# Altium footprint library StandardDevices.PcbLib: 59 footprints (part 2 of 4)
Each footprint in its own frame and in the unit in brackets; x right, y up, seen from the top. Pads: shape width x height; smd on the part's side, far side on the other; paste and mask are expansions set on the pad; w line width, h text height; cw(c..) or ccw(c..) is an arc to the next point about the centre after c.
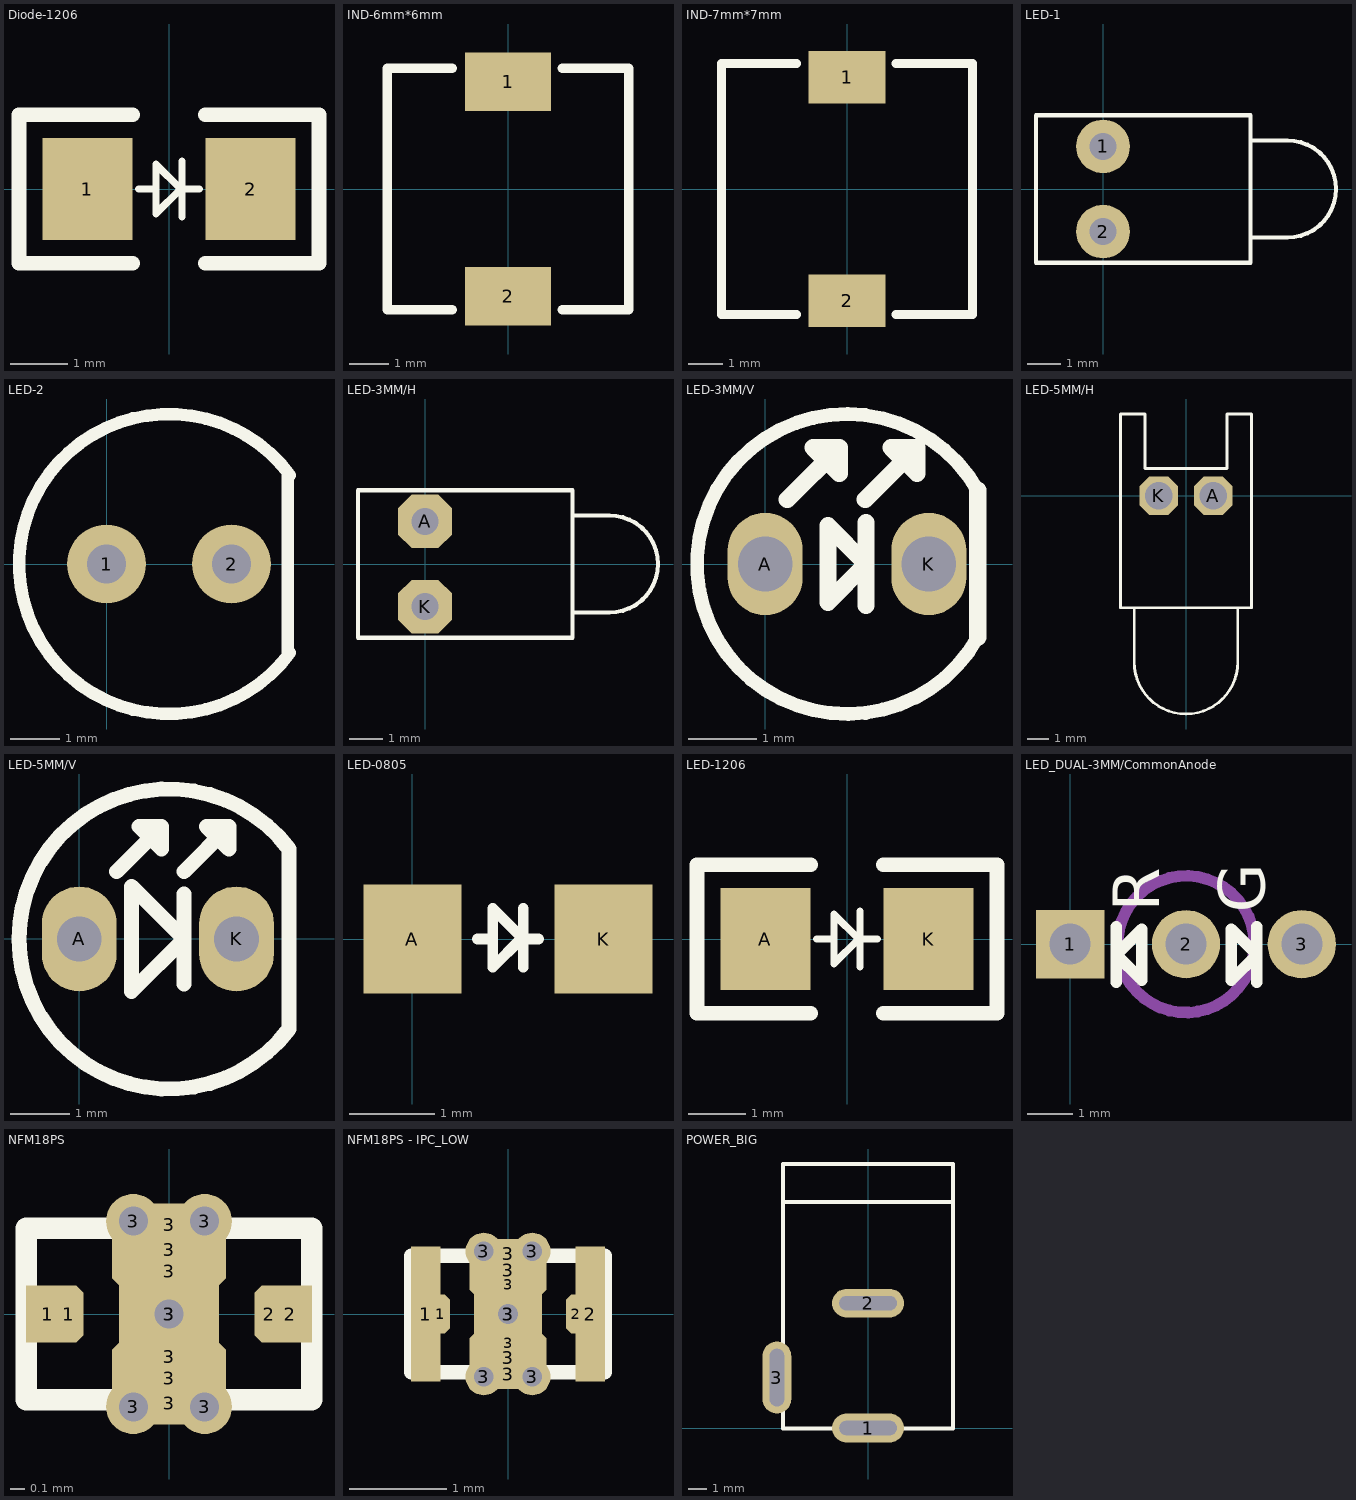
[diagram p1: the footprints below, top view; thin cyan lines are the x and y axes]

## Diode-1206 [mil]
pads (2):
  rect 62x70 smd: 1(-56,0) 2(56,0)
Top Overlay:
  lines w5: -21,0 -9,0 ; 9,-19 9,19 ; 9,0 21,0 ; -9,-17 -9,17 8,0 -9,-17
  lines w10: -25,-51 -103,-51 -103,51 -25,51 ; 25,-51 103,-51 103,51 25,51

## IND-6mm*6mm [mm] "6mm*6mm Inductor"
pads (2):
  rect 2.2x1.5 smd: 1(0,2.75) 2(0,-2.75)
Top Overlay:
  lines w0.254: -1.441,-3.1 -3.1,-3.1 -3.1,3.1 -1.441,3.1 ; 1.397,-3.1 3.1,-3.1 3.1,3.1 1.397,3.1
3D body: height 4.5, standoff 0, extent -3.1,-3.1 3.1,3.1

## IND-7mm*7mm [mm] "7mm*7mm Inductor"
pads (2):
  rect 2.2x1.5 smd: 1(0,3.2) 2(0,-3.2)
Top Overlay:
  lines w0.254: -3.556,-3.556 -3.6,-3.6 ; -1.441,-3.6 -3.6,-3.6 ; -1.441,3.6 -3.6,3.6 -3.6,-3.6 ; 1.397,-3.6 3.6,-3.6 3.6,3.6 1.397,3.6

## LED-1 [mm]
pads (2):
  round 1.6 hole 0.8: 1(0,1.27) 2(0,-1.27)
Top Overlay:
  lines w0.127: 4.4,-1.45 5.5,-1.45 ccw(c5.5,0) 5.5,1.45 4.4,1.45 ; -2,-2.2 4.4,-2.2 4.4,2.2 -2,2.2 -2,-2.2

## LED-2 [mil]
pads (2):
  round 63 hole 31.5: 1(0,0) 2(100,0)
Top Overlay:
  lines w10: 145,-70 145,70 ; 146.61,-71.18 cw(c50,0) 146.61,71.18

## LED-3MM/H [mm]
pads (2):
  oct 1.6x1.6 hole 0.8: A(0,1.27) K(0,-1.27)
Top Overlay:
  lines w0.127: 4.4,-1.45 5.5,-1.45 ccw(c5.5,0) 5.5,1.45 4.4,1.45 ; -2,-2.2 -2,2.2 4.4,2.2 4.4,-2.2 -2,-2.2

## LED-3MM/V [mm]
pads (2):
  oval 1.1x1.5 hole 0.8: A(0,0) K(2.4,0)
Top Overlay:
  lines w0.203: 3.116,1.082 ccw(c1.2,0) 3.119,-1.076
  lines w0.254: 0.322,0.946 1.084,1.708 ; 1.465,0.946 2.227,1.708 ; 1.479,-0.61 1.479,0.61 ; 3.116,-1.073 3.116,1.082 ; 1.084,1.708 1.084,1.327 0.703,1.708 1.084,1.708 ; 2.227,1.708 1.846,1.708 2.227,1.327 2.227,1.708 ; 0.921,-0.559 0.921,0.559 1.479,0 0.921,-0.559

## LED-5MM/H [mil]
pads (2):
  oct 70x70 hole 50: A(50,0) K(-50,0)
Top Overlay:
  lines w5: -95,-205 -95,-305 ccw(c0,-305) 95,-305 95,-205 ; -120,-205 -120,150 -75,150 -75,50 75,50 75,150 120,150 120,-205 -120,-205

## LED-5MM/V [mil]
pads (2):
  oval 50x70 hole 30: A(0,0) K(105,0)
Top Overlay:
  lines w10: 25,45 55,75 ; 70,-30 70,30 ; 70,45 100,75 ; 55,75 40,75 55,60 55,75 ; 100,75 85,75 100,60 100,75 ; 35,-35 70,0 35,35 35,-35 ; 140,-60.15 cw(c59.9,-0.07) 140,60 140,-60.15

## LED-0805 [mil]
pads (2):
  rect 45x50 smd: A(0,0) K(88,0)
Top Overlay:
  lines w5: 30,0 36,0 ; 50,0 37,-13 37,14 51,0 58,0 ; 51,-13 51,14

## LED-1206 [mil]
pads (2):
  rect 62x70 smd: A(-56,0) K(56,0)
Top Overlay:
  lines w5: -21,0 -9,0 ; 9,-19 9,19 ; 9,0 21,0 ; -9,-17 8,0 -9,17 -9,-17
  lines w10: -25,-51 -103,-51 -103,51 -25,51 ; 25,-51 103,-51 103,51 25,51

## LED_DUAL-3MM/CommonAnode [mm] "Common Anode 3mm LED in Red and Green"
pads (3):
  rect 1.5x1.5 hole 0.9: 1(0,0)
  round 1.5 hole 0.9: 2(2.54,0) 3(5.08,0)
Top Overlay:
  lines w0.254: 1.01,-0.838 1.01,0.381 ; 4.096,-0.838 4.096,0.381 ; 1.01,-0.229 1.569,0.33 1.569,-0.787 1.01,-0.229 ; 3.537,-0.787 4.096,-0.229 3.537,0.33 3.537,-0.787
  text "R" at 1.956,0.711 h1.02
  text "G" at 4.267,0.686 h1.02
Mechanical 13:
  circle w0.254: c2.54,0 r1.5

## NFM18PS [mm] "NFM18ps package"
pads (16):
  rect 0.3x0.4 smd mask+0.05: 1(-0.85,0) 2(0.85,0)
  oct 0.2x0.4 smd mask+0.05: 1(-0.7,0) 2(0.7,0)
  round 0.381 hole 0.203: 3(-0.25,-0.65) 3(-0.25,0.65) 3(0,0) 3(0.25,-0.65) 3(0.25,0.65)
  rect 0.8x0.3 smd: 3(0,-0.625) 3(0,0.625)
  rect 0.8x0.3 smd mask+0.05: 3(0,-0.45) 3(0,0.45)
  oct 0.8x0.2 smd mask+0.05: 3(0,-0.3) 3(0,0.3)
  rect 0.7x0.6 smd: 3(0,0)
Top Overlay:
  lines w0.15: -1,-0.6 -1,0.6 1,0.6 1,-0.6 -1,-0.6
3D body: height 0.6, standoff 0, extent -0.8,-0.4 0.8,0.4

## NFM18PS - IPC_LOW [mm] "NFM18ps package"
pads (16):
  rect 0.3x1.4 smd mask+0.05: 1(-0.85,0) 2(0.85,0)
  oct 0.2x0.4 smd mask+0.05: 1(-0.7,0) 2(0.7,0)
  round 0.381 hole 0.203: 3(-0.25,-0.65) 3(-0.25,0.65) 3(0,0) 3(0.25,-0.65) 3(0.25,0.65)
  rect 0.8x0.3 smd: 3(0,-0.625) 3(0,0.625)
  rect 0.8x0.3 smd mask+0.05: 3(0,-0.45) 3(0,0.45)
  oct 0.8x0.2 smd mask+0.05: 3(0,-0.3) 3(0,0.3)
  rect 0.7x0.6 smd: 3(0,0)
Top Overlay:
  lines w0.15: -1,-0.6 -1,0.6 1,0.6 1,-0.6 -1,-0.6
3D body: height 0.6, standoff 0, extent -0.8,-0.4 0.8,0.4

## PCBComponent_1 [mm]

## POWER_BIG [mil]
pads (3):
  oval 150x60 hole 30 slot 120 at 0 deg: 1(0,0) 2(0,260)
  oval 60x150 hole 30 slot 120 at 90 deg: 3(-190,105)
Top Overlay:
  lines w8: -177,471 177,471 ; -177,-1 -177,550 177,550 177,-1 -177,-1